# Altium schematic symbol library TUSB4020BI.SchLib: 1 symbol
Pins are listed as number, name and electrical type; pins without a type are passive.

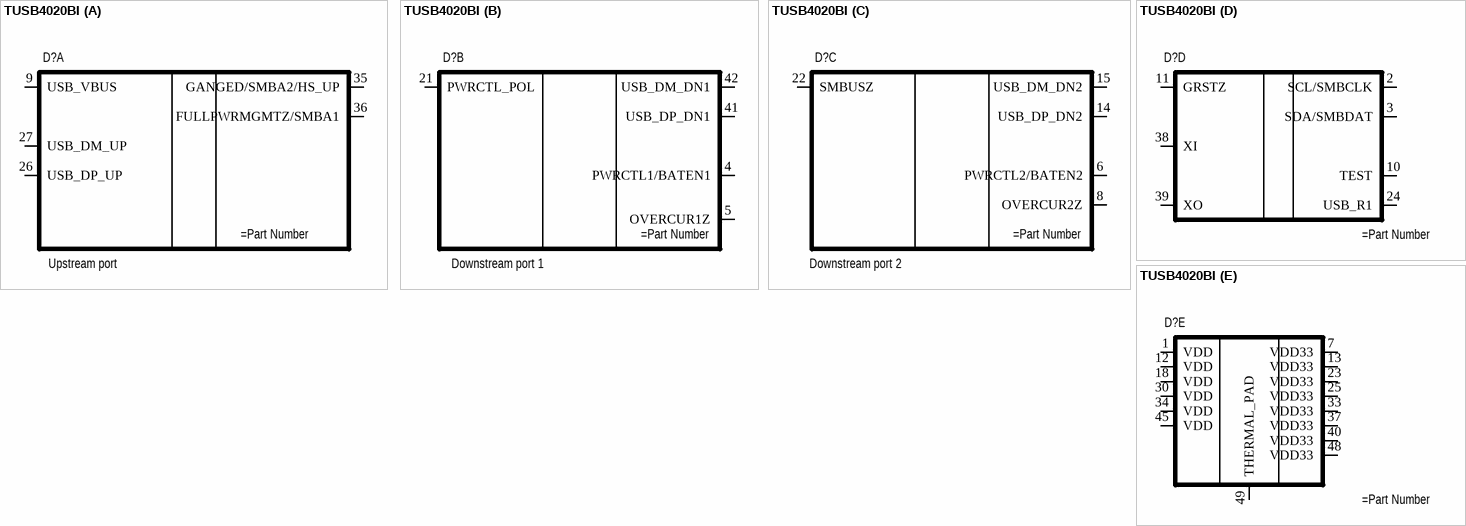
[diagram p0: symbol TUSB4020BI]

## TUSB4020BI
designator D?
Two-Port USB 2.0 Hub
part A pins: 9 USB_VBUS, 26 USB_DP_UP, 27 USB_DM_UP, 35 GANGED/SMBA2/HS_UP, 36 FULLPWRMGMTZ/SMBA1
part B pins: 4 PWRCTL1/BATEN1, 5 OVERCUR1Z, 21 PWRCTL_POL, 41 USB_DP_DN1, 42 USB_DM_DN1
part C pins: 6 PWRCTL2/BATEN2, 8 OVERCUR2Z, 14 USB_DP_DN2, 15 USB_DM_DN2, 22 SMBUSZ
part D pins: 2 SCL/SMBCLK, 3 SDA/SMBDAT, 10 TEST, 11 GRSTZ, 24 USB_R1, 38 XI, 39 XO
part E pins: 1 VDD, 7 VDD33, 12 VDD, 13 VDD33, 18 VDD, 23 VDD33, 25 VDD33, 30 VDD, 33 VDD33, 34 VDD, 37 VDD33, 40 VDD33, 45 VDD, 48 VDD33, 49 THERMAL_PAD
part A text: Upstream port
part B text: Downstream port 1
part C text: Downstream port 2